# Altium footprint library SparkFun-Connectors.PCBLIB: 379 footprints (part 20 of 24)
Each footprint in its own frame and in the unit in brackets; x right, y up, seen from the top. Pads: shape width x height; smd on the part's side, far side on the other; paste and mask are expansions set on the pad; w line width, h text height; cw(c..) or ccw(c..) is an arc to the next point about the centre after c.
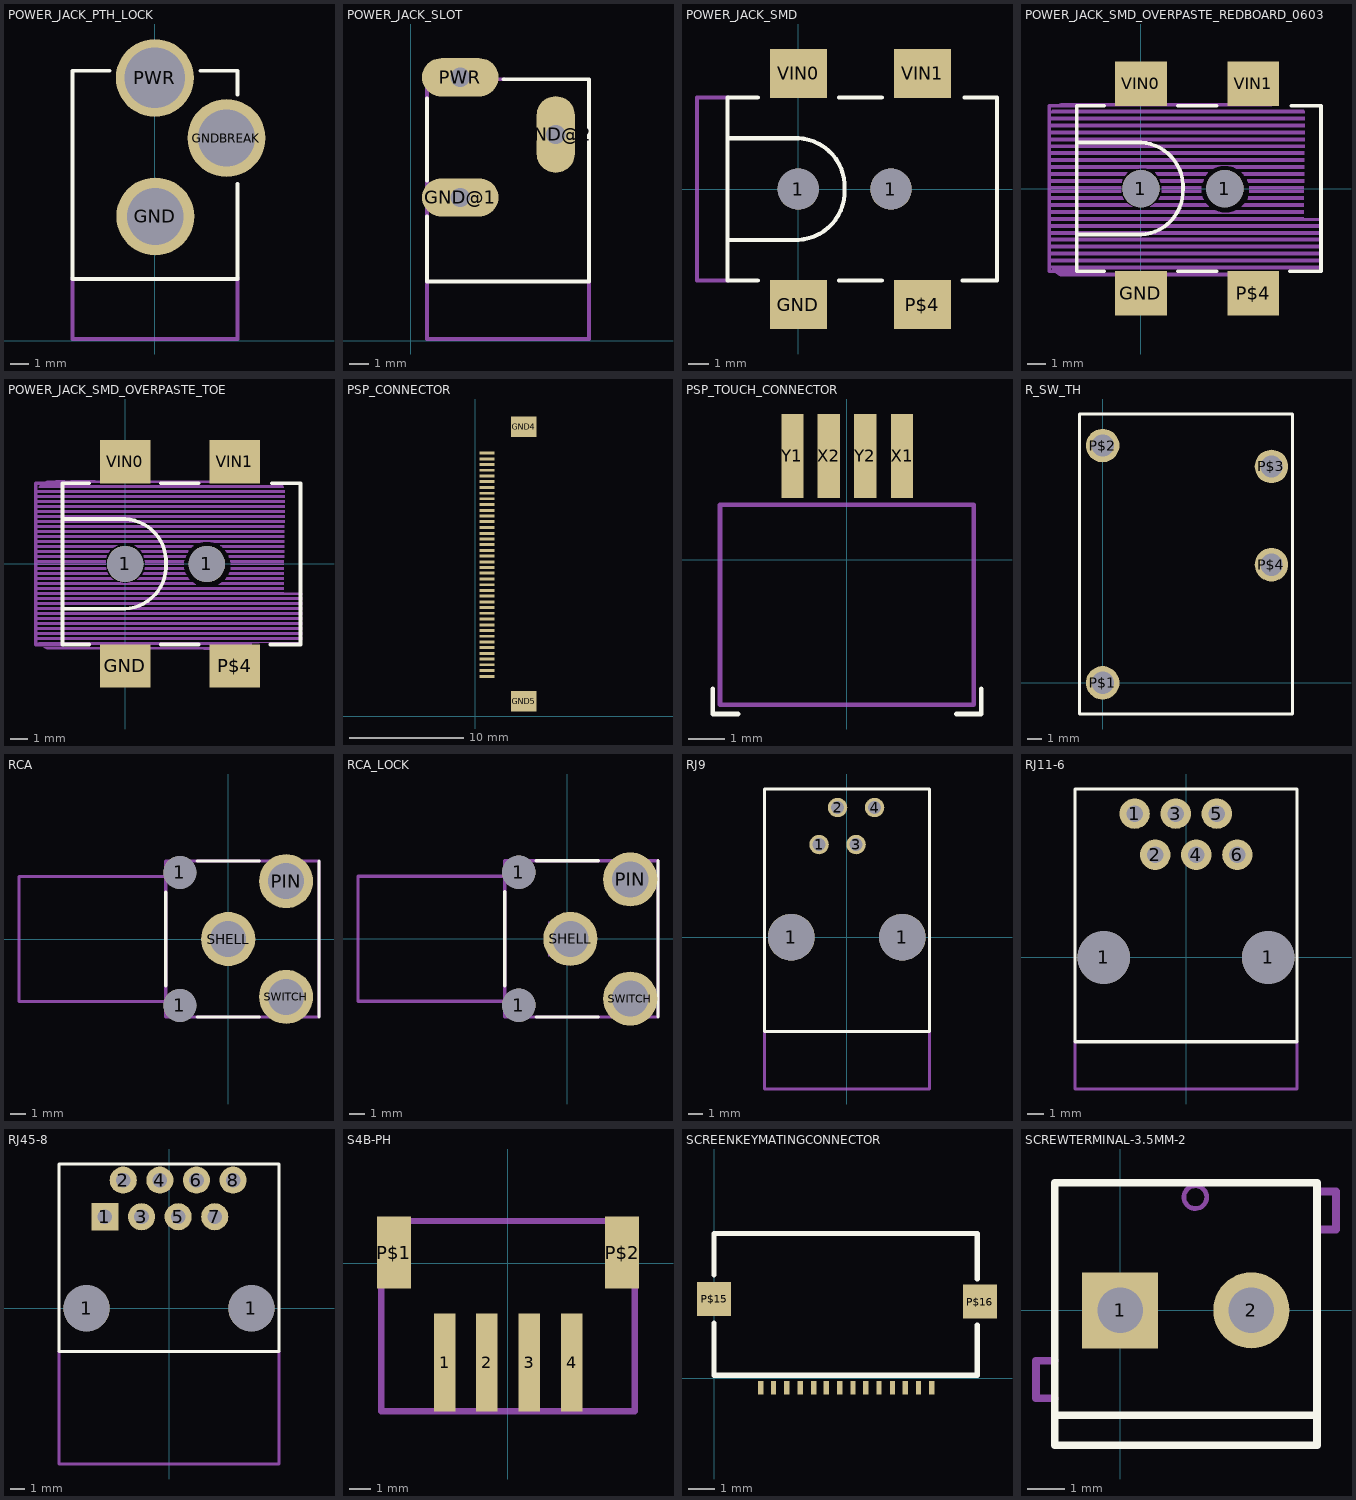
[diagram p19: the footprints below, top view; thin cyan lines are the x and y axes]

## POWER_JACK_PTH_LOCK [mil]
pads (3):
  round 162 hole 118: GND(1,259) GNDBREAK(149,422)
  round 162 hole 126: PWR(0,547)
Top Overlay:
  lines w8: -94.49,562 -171.17,562 -171.17,129 172,129 172,327 ; 95,562 172,562 172,512
Mechanical 2:
  text ">NAME" at -150,200 h24.8
Mechanical 4:
  text ">VALUE" at -150,150 h24.8
Mechanical 16:
  region: 58.25,528.25 58.25,546.75 -56.75,546.75 -56.75,528.25
  region: 48.25,291.25 48.25,302.75 -47.75,302.75 -47.75,291.25
  region: 187,469 176,469 176,373 187,373
  lines w8: -171.17,130 -171.17,4 172,4 172,130

## POWER_JACK_SLOT [mil]
pads (3):
  oval 158x79 hole 40: GND@1(102,296) PWR(102,544)
  oval 79x158 hole 40: GND@2(299,426)
Top Overlay:
  lines w8: 33,257 33,123 368,123 ; 33,331 33,500 ; 191,540 368,540 368,123 ; 366,123 368,123
Mechanical 2:
  text ">NAME" at 0,0 h108.5
Mechanical 4:
  text ">VALUE" at 450,0 h108.5
Mechanical 11:
  lines w0: 39,544 165,544 ; 39,544 cw(c58.5,543.5) 59,563 145,563 cw(c145.5,543.5) 165,544 ; 39,544 ccw(c59,544) 59,524 145,524 ccw(c145,544) 165,544 ; 39,296 cw(c58.5,295.5) 59,315 145,315 cw(c145.5,295.5) 165,296 cw(c145,296) 145,276 59,276 cw(c59,296) 39,296 ; 279,382 ccw(c298.5,382.5) 299,363 ccw(c299.5,382.5) 319,382 319,469 ccw(c299,469) 299,489 ccw(c299,469) 279,469 279,382
Mechanical 16:
  lines w8: 33,123 33,4 368,4 368,123 ; 33,258 33,331 ; 33,500 33,540 191,540

## POWER_JACK_SMD [mil]
pads (6):
  round 80 hole 80: 1(0,0) 1(180,0)
  rect 111x95 smd: GND(0,-224.41) P$4(241,-224.41) VIN0(0,225) VIN1(241,225)
Top Overlay:
  lines w8: -78.74,-177.17 -137.8,-177.17 -137.8,-98.43 ; -78.74,178 -137.8,178 -137.8,99 ; 79,-177.17 162,-177.17 ; 79,178 162,178 ; 319,-177.17 386,-177.17 386,178 323,178 ; -137.8,-98.43 -137.8,99 ; -137.8,-98.43 0,-98.43 ccw(c-4.21,-4.21) 90,0 ccw(c-4.5,4.5) 0,99 -137.8,99
Mechanical 16:
  lines w8: -137.8,-177.17 -196.85,-177.17 -196.85,178 -137.8,178

## POWER_JACK_SMD_OVERPASTE_REDBOARD_0603 [mil]
pads (6):
  round 80 hole 80: 1(0,0) 1(180,0)
  rect 111x95 smd: GND(0,-224.41) P$4(241,-224.41) VIN0(0,225) VIN1(241,225)
Top Overlay:
  lines w8: -78.74,-177.17 -137.8,-177.17 -137.8,-98.43 ; -78.74,178 -137.8,178 -137.8,99 ; 79,-177.17 162,-177.17 ; 79,178 162,178 ; 319,-177.17 386,-177.17 386,178 323,178 ; -137.8,-98.43 -137.8,99 ; -137.8,-98.43 0,-98.43 ccw(c-4.21,-4.21) 90,0 ccw(c-4.5,4.5) 0,99 -137.8,99
Top Paste:
  rectangle: 295,191 332,256
  region: 32.53,269.53 32.53,307.47 -32.47,307.47 -32.47,269.53
  region: 28.83,-308.52 28.83,-271.08 -36.27,-271.08 -36.27,-308.52
  region: 278.55,-308.7 278.55,-270.7 213.45,-270.7 213.45,-308.7
Mechanical 16:
  lines w8: -137.8,-177.17 -196.85,-177.17 -196.85,178 -137.8,178
Mech82:
  drawing of 810 lines, arcs and shapes, not listed
  text "//kentro/work/Production/AOI Parts/Tyler/Breadboard power 5v/barreljack.bmp" at 390,-268 h1.7

## POWER_JACK_SMD_OVERPASTE_TOE [mil]
pads (6):
  round 80 hole 80: 1(0,0) 1(180,0)
  rect 111x95 smd: GND(0,-224.41) P$4(241,-224.41) VIN0(0,225) VIN1(241,225)
Top Overlay:
  lines w8: -78.74,-177.17 -137.8,-177.17 -137.8,-98.43 ; -78.74,178 -137.8,178 -137.8,99 ; 79,-177.17 162,-177.17 ; 79,178 162,178 ; 319,-177.17 386,-177.17 386,178 323,178 ; -137.8,-98.43 -137.8,99 ; -137.8,-98.43 0,-98.43 ccw(c-4.21,-4.21) 90,0 ccw(c-4.5,4.5) 0,99 -137.8,99
Top Paste:
  rectangle: -55.1,-330 56,-271.5
  rectangle: 186,-330.1 296,-271.6
  region: 296,330 186,330 186,272 296,272
  region: 56,330 -55.1,330 -55.1,272 56,272
Mechanical 16:
  lines w8: -137.8,-177.17 -196.85,-177.17 -196.85,178 -137.8,178
Mech82:
  drawing of 810 lines, arcs and shapes, not listed
  text "//kentro/work/Production/AOI Parts/Tyler/Breadboard power 5v/barreljack.bmp" at 390,-268 h1.7

## PSP_CONNECTOR [mil]
pads (43):
  rect 1x1 smd far side: .(174,997)
  rect 50x10 smd: AVDD(40,237) AVDD2(40,217) B0(40,512) B1(40,493) B2(40,473) B3(40,453) B4(40,434) B5(40,414) B6(40,394) B7(40,375) CK(40,335) DISP(40,315) G0(40,670) G1(40,650) G2(40,630) G3(40,611) G4(40,591) G5(40,571) G6(40,552) G7(40,532) GND(40,906) GND2(40,886) GND3(40,355) HSYNC(40,296) NC(40,256) NC2(40,197) R0(40,827) R1(40,808) R2(40,788) R3(40,768) R4(40,749) R5(40,729) R6(40,709) R7(40,689) TEST1(40,178) TEST2(40,158) TEST3(40,138) VCC(40,867) VCC2(40,847) VSYNC(40,276)
  rect 87x71 smd: GND4(166,997) GND5(166,52)

## PSP_TOUCH_CONNECTOR [mil]
pads (4):
  rect 24x91 smd: X1(60,113) X2(-19.68,113) Y1(-59.06,113) Y2(20,113)
Top Overlay:
  lines w5: -145.67,-139.76 -145.67,-167.32 -118.11,-167.32 ; 119,-167.32 146,-167.32 146,-139.76
Mechanical 2:
  text ">NAME" at -127.95,36 h24.8
Mechanical 4:
  text ">VALUE" at -131.89,-151.57 h24.8
Mechanical 16:
  lines w5: -137.8,-157.48 138,-157.48 138,60 -137.8,60 -137.8,-157.48

## R_SW_TH [mil]
pads (4):
  round 94.5 hole 63: P$1(0,0) P$2(0,669) P$3(476,610) P$4(476,333)
Top Overlay:
  lines w8: -65,-88 -65,-54 -65,758 535,758 535,-88 -65,-88

## RCA [mil]
pads (5):
  round 83 hole 83: 1(-122.05,-167.32) 1(-122.05,168)
  round 136.5 hole 91: PIN(146,146) SHELL(0,0) SWITCH(146,-145.67)
Top Overlay:
  lines w8: -157.48,-118.11 -157.48,119 ; -78.74,-196.85 79,-196.85 ; -78.74,197 79,197 ; 229,-196.85 229,197
Mechanical 16:
  lines w8: -157.48,-157.48 -527.56,-157.48 -527.56,158 -157.48,158 ; -157.48,-196.85 -157.48,197 229,197 229,-196.85 -157.48,-196.85

## RCA_LOCK [mil]
pads (5):
  round 84 hole 84: 1(-122.05,-167.32) 1(-122.05,168)
  round 136.5 hole 91: PIN(159,150) SHELL(8,0) SWITCH(159,-150.67)
Top Overlay:
  lines w8: -157.48,-118.11 -157.48,119 ; -78.74,-196.85 79,-196.85 ; -78.74,197 79,197 ; 229,-196.85 229,197
Mechanical 16:
  rectangle: -152,137 -93,196
  rectangle: -152,-198 -93,-139
  rectangle: -49,-44 10,44
  rectangle: 113,-153 201,-139
  rectangle: 113,137 201,151
  lines w1: 113,-138 176,-138 ; 113,136 176,136
  lines w8: -157.48,-157.48 -527.56,-157.48 -527.56,158 -157.48,158 ; -157.48,-196.85 -157.48,197 229,197 229,-196.85 -157.48,-196.85

## RJ9 [mil]
pads (6):
  round 126 hole 126: 1(-150,0) 1(150,0)
  round 52.5 hole 35: 1(-75,250) 2(-25,350) 3(25,250) 4(75,350)
Top Overlay:
  lines w8: -222.05,-255 -222.05,400 223,400 223,-255 -222.05,-255
Mechanical 16:
  lines w8: -222.05,-255 -222.05,-409.84 223,-409.84 223,-255

## RJ11-6 [mil]
pads (8):
  round 128 hole 128: 1(-200,0) 1(200,0)
  round 74 hole 40: 1(-125,350) 2(-75,250) 3(-25,350) 4(25,250) 5(75,350) 6(125,250)
Top Overlay:
  lines w8: -270,-205 -270,410 270,410 270,-205 -270,-205
Mechanical 2:
  text ">Name" at -100,100 h24.8
Mechanical 4:
  text ">Value" at -100,50 h24.8
Mechanical 16:
  lines w8: -270,-205 -270,-320 270,-320 270,-205

## RJ45-8 [mil]
pads (10):
  round 126 hole 126: 1(-225,0) 1(225,0)
  rect 74x74 hole 40: 1(-175,250)
  round 74 hole 40: 2(-125,350) 3(-75,250) 4(-25,350) 5(25,250) 6(75,350) 7(125,250) 8(175,350)
Top Overlay:
  lines w8: -300,-118.11 -300,394 300,394 300,-118.11 -300,-118.11
Mechanical 16:
  lines w8: -300,-118.11 -300,-425.2 300,-425.2 300,-118.11

## S4B-PH [mil]
pads (6):
  rect 40x182 smd: 1(-118.11,-185.04) 2(-39.37,-185.04) 3(40,-185.04) 4(119,-185.04)
  rect 63x134 smd: P$1(-212.6,20) P$2(213,20)
Mechanical 16:
  lines w12: -236.22,-275.59 -236.22,79 237,79 237,-275.59 -236.22,-275.59

## SCREENKEYMATINGCONNECTOR [mil]
pads (16):
  rect 8x20 smd: 1(70,-14.17) 2(89,-14.17) 3(109,-14.17) 4(129,-14.17) 5(149,-14.17) 6(168,-14.17) 7(188,-14.17) 8(208,-14.17) 9(227,-14.17) 10(247,-14.17) 11(267,-14.17) 12(286,-14.17) 13(306,-14.17) 14(326,-14.17)
  rect 51x51 smd: P$15(0,119) P$16(398,115)
Top Overlay:
  lines w8: 0,83 0,5 394,5 394,80 ; 0,155 0,216 ; 0,217 394,217 394,149

## SCREWTERMINAL-3.5MM-2 [mil]
pads (2):
  rect 80x80 hole 48: 1(0,0)
  round 80 hole 48: 2(138,0)
Top Overlay:
  lines w8: -68.9,-110.24 -68.9,-141.73 207,-141.73 207,-110.24 ; -68.9,-110.24 -68.9,134 207,134 207,-110.24 ; -68.9,-110.24 207,-110.24
Mechanical 2:
  text ">NAME" at -50,100 h24.8
Mechanical 4:
  text ">VALUE" at -50,50 h24.8
Mechanical 16:
  circle w5: c79,119 r12
  lines w8: -68.9,-92.52 -88.58,-92.52 -88.58,-53.15 -68.9,-53.15 ; 207,85 227,85 227,125 207,125